# Altium schematic symbol library TAUV-Lib.SchLib: 493 symbols (part 5 of 5)
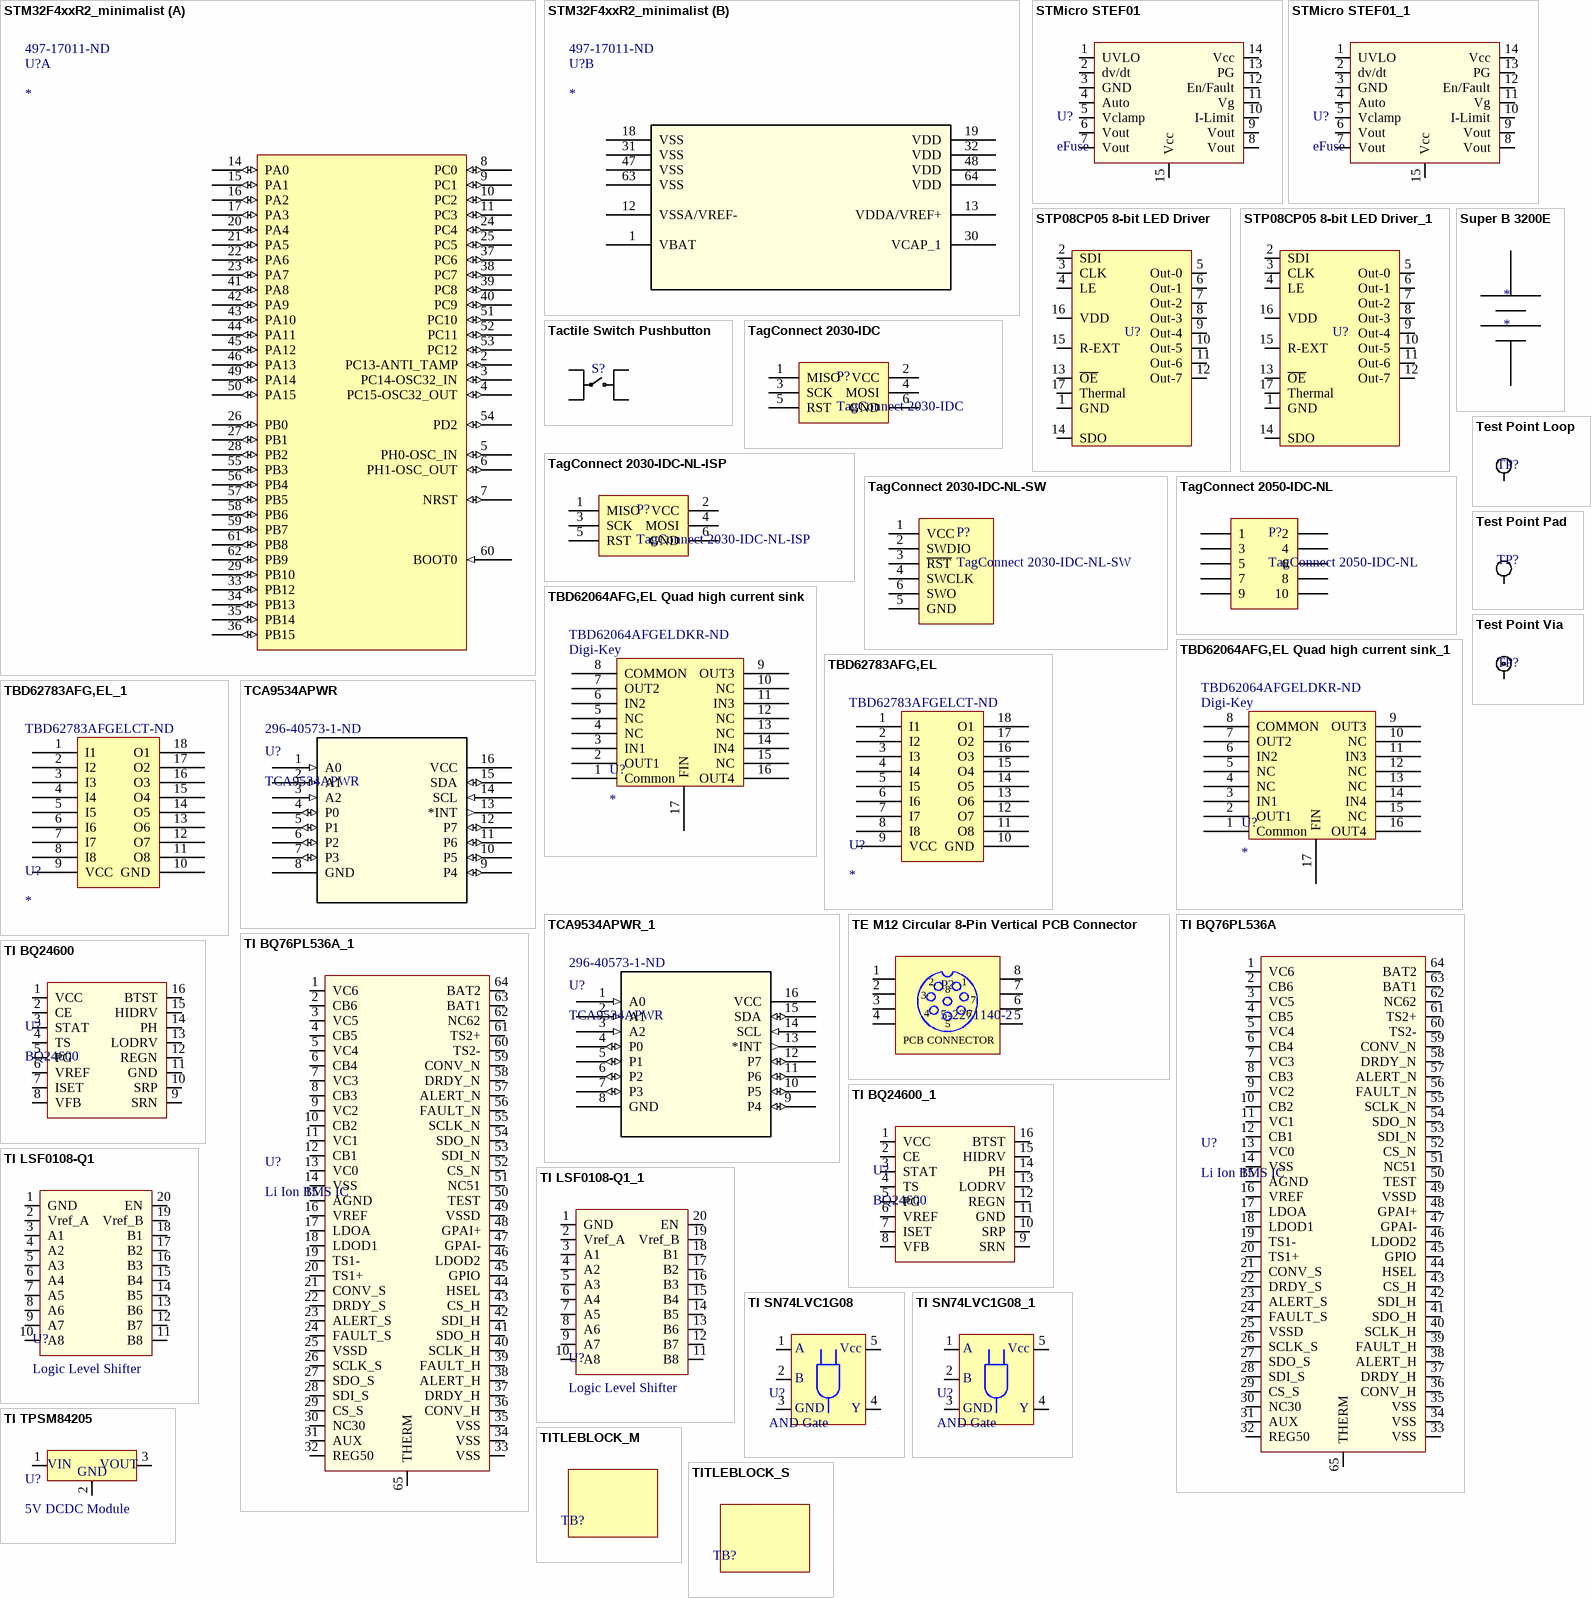
[diagram p18: symbols STM32F4xxR2_minimalist to TITLEBLOCK_S]

## TBD62064AFG,EL Quad high current sink_1
designator U?  Supplier 1: Digi-Key  Supplier Part Number 1: TBD62064AFGELDKR-ND
4channel high current sink type DMOS transistor array; ComponentLink1Description: Digikey; ComponentLink1URL: https://www.digikey.com/product-detail/en/toshiba-semiconductor-and-storage/TBD62064AFGEL/TBD62064AFGELCT-ND/6022000
footprint HSOP16
pins: 1 Common, 2 OUT1, 3 IN1, 4 NC, 5 NC, 6 IN2, 7 OUT2, 8 COMMON, 9 OUT3, 10 NC, 11 IN3, 12 NC, 13 NC, 14 IN4, 15 NC, 16 OUT4, 17 FIN

## TBD62783AFG,EL
designator U?  Supplier Part Number 1: TBD62783AFGELCT-ND
IC LOAD SWITCH 8CH 0.5A 18SOP; Supplier 1: Digi-Key
footprint SOP127P1030X245-18N (SOP, 18-Leads, Body 12.50x7.00mm, Pitch 1.27mm, IPC Medium Density)
pins: 1 I1, 2 I2, 3 I3, 4 I4, 5 I5, 6 I6, 7 I7, 8 I8, 9 VCC, 10 GND, 11 O8, 12 O7, 13 O6, 14 O5, 15 O4, 16 O3, 17 O2, 18 O1

## TBD62783AFG,EL_1
designator U?  Supplier Part Number 1: TBD62783AFGELCT-ND
IC LOAD SWITCH 8CH 0.5A 18SOP; Supplier 1: Digi-Key
footprint SOP127P1030X245-18N (SOP, 18-Leads, Body 12.50x7.00mm, Pitch 1.27mm, IPC Medium Density)
pins: 1 I1, 2 I2, 3 I3, 4 I4, 5 I5, 6 I6, 7 I7, 8 I8, 9 VCC, 10 GND, 11 O8, 12 O7, 13 O6, 14 O5, 15 O4, 16 O3, 17 O2, 18 O1

## TCA9534APWR
designator U?  Supplier Part Number 1: 296-40573-1-ND
IC I/O EXPANDER I2C 8B 16TSSOP; Vendor: Texas Instruments; Built_By: EMA_UL_Team; C: Copyright (C) 2016 Accelerated Designs. All rights reserved; Manufacturer_Part_Number: TCA9534APWR; RefDes: RefDes; Type: DEV; Value: Value; Supplier 1: Digi-Key
footprint PW16
pins: 1 A0 (in), 2 A1 (in), 3 A2 (in), 4 P0 (io), 5 P1 (io), 6 P2 (io), 7 P3 (io), 8 GND (power), 9 P4 (io), 10 P5 (io), 11 P6 (io), 12 P7 (io), 13 *INT (out), 14 SCL (in), 15 SDA (io), 16 VCC (power)

## TCA9534APWR_1
designator U?, comment TCA9534APWR  Supplier Part Number 1: 296-40573-1-ND
IC I/O EXPANDER I2C 8B 16TSSOP; Vendor: Texas Instruments; Built_By: EMA_UL_Team; C: Copyright (C) 2016 Accelerated Designs. All rights reserved; Manufacturer_Part_Number: TCA9534APWR; RefDes: RefDes; Type: DEV; Value: Value; Supplier 1: Digi-Key
footprint PW16
pins: 1 A0 (in), 2 A1 (in), 3 A2 (in), 4 P0 (io), 5 P1 (io), 6 P2 (io), 7 P3 (io), 8 GND (power), 9 P4 (io), 10 P5 (io), 11 P6 (io), 12 P7 (io), 13 *INT (out), 14 SCL (in), 15 SDA (io), 16 VCC (power)

## TE M12 Circular 8-Pin Vertical PCB Connector
designator P?, comment 5-2271140-2
M12 Male Panel Mount, A Code, 8 Position, PCB Type; Manufacturer: TE Connectivity; Datasheet: http://www.te.com/commerce/DocumentDelivery/DDEController?Action=showdoc&DocId=Customer+Drawing%7F2271140%7FA2%7Fpdf%7FEnglish%7FENG_CD_2271140_A2.pdf%7F5-2271140-2; Manufacturer Part Number: 5-2271140-2; Supplier 1: Mouser; Supplier Part Number 1: 571-5-2271140-2
footprint TE 5-2271140-2 8POS (TE 8-Position rear panel mount circular connector)
pins: 1, 2, 3, 4, 5, 6, 7, 8
text: PCB CONNECTOR

## Test Point Loop
designator TP?  (value not drawn)
Keyston Electronics 5001 Test Point Loop; Manufacturer P/N: 5001; Manufacturer: Keystone Electronics; Color: Black; Supplier 1: Digi-Key; Supplier Part Number 1: 36-5001-ND
footprint Test Point Loop - Black (, black)
footprint Test Point Loop - Red (, red)
pins: 1

## Test Point Pad
designator TP?  (value not drawn)
Test point, Pad, 28 mil
footprint Test Point Pad (Test Point, Pad, 28mil)
pins: 1

## Test Point Via
designator TP?  (value not drawn)
Test point, via
footprint Test Point
pins: 1

## TI BQ76PL536A
designator U?, comment Li Ion BMS IC
Battery Multi-Function Controller IC Lithium-Ion 64-HTQFP (10x10); ComponentLink1Description: digikey; ComponentLink1URL: https://www.digikey.com/product-detail/en/texas-instruments/BQ76PL536TPAPRQ1/296-28567-1-ND/2650637
footprint TSQFP50P1200X1200X120_HS-65N (TSQFP, 64-Leads, Body 10.00x10.00mm, Pitch 0.50mm, Thermal Pad 6.50x6.50mm, IPC Medium Density)
pins: 1 VC6, 2 CB6, 3 VC5, 4 CB5, 5 VC4, 6 CB4, 7 VC3, 8 CB3, 9 VC2, 10 CB2, 11 VC1, 12 CB1, 13 VC0, 14 VSS, 15 AGND, 16 VREF, 17 LDOA, 18 LDOD1, 19 TS1-, 20 TS1+, 21 CONV_S, 22 DRDY_S, 23 ALERT_S, 24 FAULT_S, 25 VSSD, 26 SCLK_S, 27 SDO_S, 28 SDI_S, 29 CS_S, 30 NC30, 31 AUX, 32 REG50, 33 VSS, 34 VSS, 35 VSS, 36 CONV_H, 37 DRDY_H, 38 ALERT_H, 39 FAULT_H, 40 SCLK_H, 41 SDO_H, 42 SDI_H, 43 CS_H, 44 HSEL, 45 GPIO, 46 LDOD2, 47 GPAI-, 48 GPAI+, 49 VSSD, 50 TEST, 51 NC51, 52 CS_N, 53 SDI_N, 54 SDO_N, 55 SCLK_N, 56 FAULT_N, 57 ALERT_N, 58 DRDY_N, 59 CONV_N, 60 TS2-, 61 TS2+, 62 NC62, 63 BAT1, 64 BAT2, 65 THERM

## TI BQ76PL536A_1
designator U?, comment Li Ion BMS IC
Battery Multi-Function Controller IC Lithium-Ion 64-HTQFP (10x10); ComponentLink1Description: digikey; ComponentLink1URL: https://www.digikey.com/product-detail/en/texas-instruments/BQ76PL536TPAPRQ1/296-28567-1-ND/2650637
footprint TSQFP50P1200X1200X120_HS-65N (TSQFP, 64-Leads, Body 10.00x10.00mm, Pitch 0.50mm, Thermal Pad 6.50x6.50mm, IPC Medium Density)
pins: 1 VC6, 2 CB6, 3 VC5, 4 CB5, 5 VC4, 6 CB4, 7 VC3, 8 CB3, 9 VC2, 10 CB2, 11 VC1, 12 CB1, 13 VC0, 14 VSS, 15 AGND, 16 VREF, 17 LDOA, 18 LDOD1, 19 TS1-, 20 TS1+, 21 CONV_S, 22 DRDY_S, 23 ALERT_S, 24 FAULT_S, 25 VSSD, 26 SCLK_S, 27 SDO_S, 28 SDI_S, 29 CS_S, 30 NC30, 31 AUX, 32 REG50, 33 VSS, 34 VSS, 35 VSS, 36 CONV_H, 37 DRDY_H, 38 ALERT_H, 39 FAULT_H, 40 SCLK_H, 41 SDO_H, 42 SDI_H, 43 CS_H, 44 HSEL, 45 GPIO, 46 LDOD2, 47 GPAI-, 48 GPAI+, 49 VSSD, 50 TEST, 51 NC51, 52 CS_N, 53 SDI_N, 54 SDO_N, 55 SCLK_N, 56 FAULT_N, 57 ALERT_N, 58 DRDY_N, 59 CONV_N, 60 TS2-, 61 TS2+, 62 NC62, 63 BAT1, 64 BAT2, 65 THERM

## TI BQ24600
designator U?, comment BQ24600
Li Ion Battery Charger IC
footprint BQ24600
pins: 1 VCC, 2 CE, 3 STAT, 4 TS, 5 PG, 6 VREF, 7 ISET, 8 VFB, 9 SRN, 10 SRP, 11 GND, 12 REGN, 13 LODRV, 14 PH, 15 HIDRV, 16 BTST

## TI BQ24600_1
designator U?, comment BQ24600
Li Ion Battery Charger IC
footprint BQ24600
pins: 1 VCC, 2 CE, 3 STAT, 4 TS, 5 PG, 6 VREF, 7 ISET, 8 VFB, 9 SRN, 10 SRP, 11 GND, 12 REGN, 13 LODRV, 14 PH, 15 HIDRV, 16 BTST

## TI LSF0108-Q1
designator U?, comment Logic Level Shifter
ComponentLink1Description: digikey; ComponentLink1URL: https://www.digikey.com/product-detail/en/texas-instruments/LSF0108QPWRQ1/296-44247-1-ND/6098479
footprint TSOP65P640X120-20N (TSOP, 20-Leads, Body 6.50x4.40mm, Pitch 0.65mm, IPC Medium Density)
pins: 1 GND, 2 Vref_A, 3 A1, 4 A2, 5 A3, 6 A4, 7 A5, 8 A6, 9 A7, 10 A8, 11 B8, 12 B7, 13 B6, 14 B5, 15 B4, 16 B3, 17 B2, 18 B1, 19 Vref_B, 20 EN

## TI LSF0108-Q1_1
designator U?, comment Logic Level Shifter
ComponentLink1Description: digikey; ComponentLink1URL: https://www.digikey.com/product-detail/en/texas-instruments/LSF0108QPWRQ1/296-44247-1-ND/6098479
footprint TSOP65P640X120-20N (TSOP, 20-Leads, Body 6.50x4.40mm, Pitch 0.65mm, IPC Medium Density)
pins: 1 GND, 2 Vref_A, 3 A1, 4 A2, 5 A3, 6 A4, 7 A5, 8 A6, 9 A7, 10 A8, 11 B8, 12 B7, 13 B6, 14 B5, 15 B4, 16 B3, 17 B2, 18 B1, 19 Vref_B, 20 EN

## TI SN74LVC1G08
designator U?, comment AND Gate
Single Package Dual Input AND Gate; ComponentLink1Description: digikey; ComponentLink1URL: https://www.digikey.com/product-detail/en/texas-instruments/SN74LVC1G08DCKR/296-11602-1-ND/385741
footprint 5-TSSOP (aka SC-70-5 or SOT-353)
pins: 1, 2, 3, 4, 5
text: A; Vcc; B; GND; Y

## TI SN74LVC1G08_1
designator U?, comment AND Gate
Single Package Dual Input AND Gate; ComponentLink1Description: digikey; ComponentLink1URL: https://www.digikey.com/product-detail/en/texas-instruments/SN74LVC1G08DCKR/296-11602-1-ND/385741
footprint 5-TSSOP (aka SC-70-5 or SOT-353)
pins: 1, 2, 3, 4, 5
text: A; Vcc; B; GND; Y

## TI TPSM84205
designator U?, comment 5V DCDC Module
ComponentLink1Description: digikey; ComponentLink1URL: https://www.digikey.com/product-detail/en/texas-instruments/TPSM84205EAB/296-47074-ND/7561620
footprint TPSM84205
pins: 1, 2, 3
text: VIN; VOUT; GND

## TITLEBLOCK_M
designator TB?, comment TITLEBLOCK_MED  (value not drawn)
TITLEBLOCK, MEDIUM
footprint TITLE BLOCK MEDIUM (Medium title block)

## TITLEBLOCK_S
designator TB?, comment TITLEBLOCK_SML  (value not drawn)
TITLEBLOCK, SMALL
footprint TITLE BLOCK SMALL (Small title block)

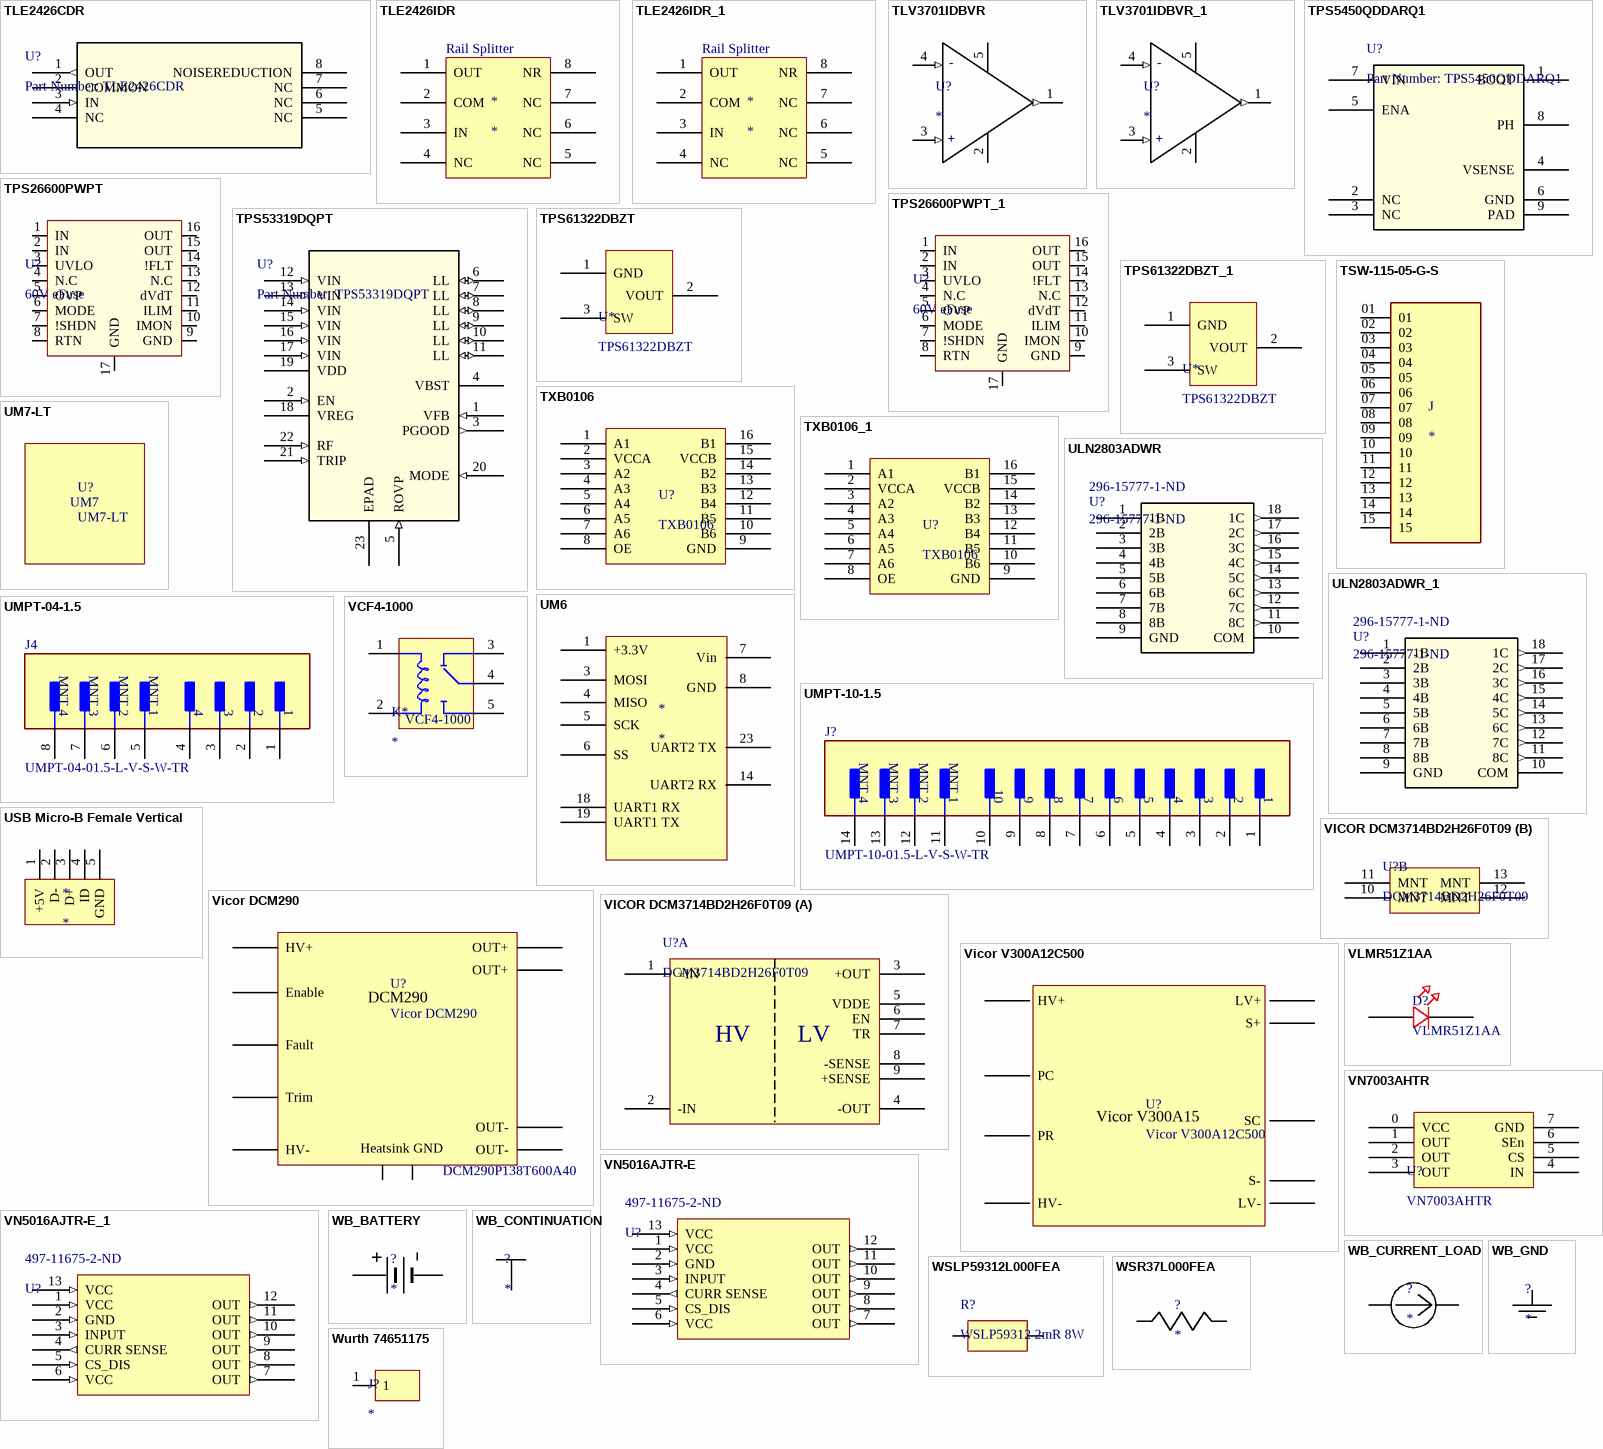
[diagram p13: symbols TLE2426CDR to Wurth 74651175]

## TLE2426CDR
designator U?, comment Part Number: TLE2426CDR
No Description Available; Vendor: Texas Instruments; Built_By: EMA_UL_Team; Manufacturer_Part_Number: TLE2426CDR; Copyright: Copyright (C) 2018 Accelerated Designs. All rights reserved; RefDes: RefDes; Type: DEV; Value: Value
footprint D8
pins: 1 OUT (out), 2 COMMON, 3 IN (in), 4 NC, 5 NC, 6 NC, 7 NC, 8 NOISEREDUCTION

## TLE2426IDR
designator *
Vcc to Vcc/2 Rail Splitter
footprint SOIC-8
pins: 1 OUT, 2 COM, 3 IN, 4 NC, 5 NC, 6 NC, 7 NC, 8 NR
text: Rail Splitter

## TLE2426IDR_1
designator *
Vcc to Vcc/2 Rail Splitter
footprint SOIC-8
pins: 1 OUT, 2 COM, 3 IN, 4 NC, 5 NC, 6 NC, 7 NC, 8 NR
text: Rail Splitter

## TLV3701IDBVR
designator U?
IC COMPARATR NANOPWR P-P SOT23-5; Supplier 1: Digi-Key; Supplier Part Number 1: 296-38577-6-ND
footprint TLV3701IDBVR
pins: 1 Out (out), 2 GND (power), 3 In+ (in), 4 In- (in), 5 Vcc (power)
text: -; +

## TLV3701IDBVR_1
designator U?
IC COMPARATR NANOPWR P-P SOT23-5; Supplier 1: Digi-Key; Supplier Part Number 1: 296-38577-6-ND
footprint TLV3701IDBVR
pins: 1 Out (out), 2 GND (power), 3 In+ (in), 4 In- (in), 5 Vcc (power)
text: -; +

## TPS5450QDDARQ1
designator U?, comment Part Number: TPS5450QDDARQ1
No Description Available; Manufacturer: Texas Instruments; Built_By: EMA_UL_Team; Manufacturer_Part_Number: TPS5450QDDARQ1; Vendor: Texas Instruments; Copyright: Copyright (C) 2018 Accelerated Designs. All rights reserved; RefDes: RefDes; Type: DEV; Value: Value
footprint DDA8_3P1X2P4
pins: 1 BOOT, 2 NC, 3 NC, 4 VSENSE, 5 ENA, 6 GND, 7 VIN, 8 PH, 9 PAD

## TPS26600PWPT
designator U?, comment 60V eFuse
Electronic Fuse Regulator 2.35A 16-HTSSOP; ComponentLink1Description: Digikey; ComponentLink1URL: https://www.digikey.com/product-detail/en/texas-instruments/TPS26600PWPT/296-44810-1-ND/6204668
footprint TSOP65P640X120_HS-17N (TSOP, 16-Leads, Body 5.00x4.40mm, Pitch 0.65mm, Thermal Pad 2.16x2.66mm, IPC Medium Density)
pins: 1 IN, 2 IN, 3 UVLO, 4 N.C, 5 OVP, 6 MODE, 7 !SHDN, 8 RTN, 9 GND, 10 IMON, 11 ILIM, 12 dVdT, 13 N.C, 14 !FLT, 15 OUT, 16 OUT, 17 GND

## TPS26600PWPT_1
designator U?, comment 60V eFuse
Electronic Fuse Regulator 2.35A 16-HTSSOP; ComponentLink1Description: Digikey; ComponentLink1URL: https://www.digikey.com/product-detail/en/texas-instruments/TPS26600PWPT/296-44810-1-ND/6204668
footprint TSOP65P640X120_HS-17N (TSOP, 16-Leads, Body 5.00x4.40mm, Pitch 0.65mm, Thermal Pad 2.16x2.66mm, IPC Medium Density)
pins: 1 IN, 2 IN, 3 UVLO, 4 N.C, 5 OVP, 6 MODE, 7 !SHDN, 8 RTN, 9 GND, 10 IMON, 11 ILIM, 12 dVdT, 13 N.C, 14 !FLT, 15 OUT, 16 OUT, 17 GND

## TPS53319DQPT
designator U?, comment Part Number: TPS53319DQPT
No Description Available; Built_By: EMA_UL_Team; Vendor: Texas Instruments; Manufacturer_Part_Number: TPS53319DQPT; Copyright: Copyright (C) 2018 Accelerated Designs. All rights reserved; RefDes: RefDes; Type: DEV; Value: Value
footprint DQP22_3P24X5P547
pins: 1 VFB (in), 2 EN (in), 3 PGOOD (out), 4 VBST (power), 5 ROVP (in), 6 LL (io), 7 LL (io), 8 LL (io), 9 LL (io), 10 LL (io), 11 LL (io), 12 VIN (in), 13 VIN (in), 14 VIN (in), 15 VIN (in), 16 VIN (in), 17 VIN (in), 18 VREG (power), 19 VDD (power), 20 MODE (in), 21 TRIP (in), 22 RF (in), 23 EPAD

## TPS61322DBZT
designator U*
5V synchronous boost converter / with only 6.5-µA quiescent current
footprint TPS61322DBZT
pins: 1 GND, 2 VOUT, 3 SW

## TPS61322DBZT_1
designator U*, comment TPS61322DBZT
5V synchronous boost converter / with only 6.5-µA quiescent current
footprint TPS61322DBZT
pins: 1 GND, 2 VOUT, 3 SW

## TSW-115-05-G-S
designator J
MP: TSW-115-05-G-S; MF: Samtec; Value: *; Availability: Unavailable; Price: None; Package: None
footprint SAMTEC_TSW-115-05-G-S
pins: 01, 02, 03, 04, 05, 06, 07, 08, 09, 10, 11, 12, 13, 14, 15

## TXB0106
designator U?
6-Bit Bidirectional Voltage-Level Translator with Auto Direction Sensing and +/-15-kV ESD Protect; Part Creator: dgorzigl; Supplier 1: Digi-Key; Datasheet: http://www.ti.com/lit/ds/symlink/txb0106.pdf; Part Number: TXB0106; Supplier Part Number 1: 296-23759-2-ND
footprint SO-G16
pins: 1 A1, 2 VCCA, 3 A2, 4 A3, 5 A4, 6 A5, 7 A6, 8 OE, 9 GND, 10 B6, 11 B5, 12 B4, 13 B3, 14 B2, 15 VCCB, 16 B1

## TXB0106_1
designator U?, comment TXB0106
6-Bit Bidirectional Voltage-Level Translator with Auto Direction Sensing and +/-15-kV ESD Protect; Part Creator: dgorzigl; Supplier 1: Digi-Key; Datasheet: http://www.ti.com/lit/ds/symlink/txb0106.pdf; Part Number: TXB0106; Supplier Part Number 1: 296-23759-2-ND
footprint SO-G16
pins: 1 A1, 2 VCCA, 3 A2, 4 A3, 5 A4, 6 A5, 7 A6, 8 OE, 9 GND, 10 B6, 11 B5, 12 B4, 13 B3, 14 B2, 15 VCCB, 16 B1

## ULN2803ADWR
designator U?, comment 296-15777-1-ND
TRANS 8NPN DARL 50V 0.5A 18SO; Manufacturer_Part_Number: ULN2803ADWR; Vendor: Texas Instruments; Built_By: EMA_UL_Team; C: Copyright (C) 2015 Accelerated Designs. All rights reserved; Manufacturer: Texas Instruments; RefDes: RefDes; Type: DEV; Value: Value; Supplier 1: Digi-Key; Supplier Part Number 1: 296-15777-1-ND
footprint DW18
pins: 1 1B (power), 2 2B (power), 3 3B (power), 4 4B (power), 5 5B (power), 6 6B (power), 7 7B (power), 8 8B (power), 9 GND (power), 10 COM, 11 8C (out), 12 7C (out), 13 6C (out), 14 5C (out), 15 4C (out), 16 3C (out), 17 2C (out), 18 1C (out)

## ULN2803ADWR_1
designator U?, comment 296-15777-1-ND
TRANS 8NPN DARL 50V 0.5A 18SO; Manufacturer_Part_Number: ULN2803ADWR; Vendor: Texas Instruments; Built_By: EMA_UL_Team; C: Copyright (C) 2015 Accelerated Designs. All rights reserved; Manufacturer: Texas Instruments; RefDes: RefDes; Type: DEV; Value: Value; Supplier 1: Digi-Key; Supplier Part Number 1: 296-15777-1-ND
footprint DW18
pins: 1 1B (power), 2 2B (power), 3 3B (power), 4 4B (power), 5 5B (power), 6 6B (power), 7 7B (power), 8 8B (power), 9 GND (power), 10 COM, 11 8C (out), 12 7C (out), 13 6C (out), 14 5C (out), 15 4C (out), 16 3C (out), 17 2C (out), 18 1C (out)

## UM6
designator *
footprint UM6
pins: 1 +3.3V, 3 MOSI, 4 MISO, 5 SCK, 6 SS, 7 Vin, 8 GND, 14 UART2 RX, 18 UART1 RX, 19 UART1 TX, 23 UART2 TX

## UM7-LT
designator U?
UM7-LT Orientation Sensor; Manufacturer: CHRobotics; Part Number: UM7-LT; Datasheet: https://www.chrobotics.com/docs/UM7_Datasheet.pdf; Created By: ayabroud
footprint UM7-LT (UM7-LT Orientation Sensor)
text: UM7

## UMPT-04-1.5
designator J4, comment UMPT-04-01.5-L-V-S-W-TR
CONN MPOWER 2MM MALE 4POS GOLD; ComponentLink1Description: Link; ComponentLink1URL: https://www.digikey.com/en/products/detail/samtec-inc/UMPT-04-01-5-L-V-S-W-TR/14670336?s=N4IgTCBcDaIKoFkAKAVAtABgCyYIwDoBWNAGTQDU0BlNAdTRQCUQBdAXyA
footprint FP-UMPT-04-01_5-L-V-S-W-T-MFG
pins: 1, 2, 3, 4, 5 MNT 1, 6 MNT 2, 7 MNT 3, 8 MNT 4

## UMPT-10-1.5
designator J?, comment UMPT-10-01.5-L-V-S-W-TR
CONN MPOWER 2MM MALE 10POS GOLD; System: Connector; ComponentLink1Description: Link; ComponentLink1URL: https://www.digikey.com/en/products/detail/samtec-inc/UMPT-10-01-5-L-V-S-W-TR/14670365?s=N4IgTCBcDaIKoFkAKAVAtARgAxqxgdAKxoAyaAamgMpoDqaKASiALoC%2BQA
footprint FP-UMPT-10-01_5-L-V-S-W-T-MFG
pins: 1, 2, 3, 4, 5, 6, 7, 8, 9, 10, 11 MNT 1, 12 MNT 2, 13 MNT 3, 14 MNT 4

## USB Micro-B Female Vertical
designator *
Manufacturer: Molex; Manufacturer Part Number: 1051330001
footprint USB MicroB Vertical Female
pins: 1 +5V, 2 D-, 3 D+, 4 ID "Normally just leave N/C", 5 GND

## VCF4-1000
designator K*
SOCKET RELAY PC MNT FOR VF4 SER; Supplier Part Number: PB232-ND; Supplier: DigiKey
footprint VCF4-1000
pins: 1 Coil A, 2 Coil B, 3 Normally Closed, 4 Common, 5 Normally Open

## Vicor DCM290
designator U?  Manufacturer Part Number: DCM290P138T600A40
Vicor DCM290 DC/DC Converter, 13.8V Nominal Output, 600W; Input Voltage: 160V - 420V (for 500W output); Manufacturer: Vicor; Datasheet: http://www.vicorpower.com/documents/datasheets/ds_DCM290y138x600A40.pdf; Supplier 1: Digi-Key; Supplier Part Number 1: 1102-5388-ND; Output Voltage: 13.8V; Max Power: 600W
footprint Vicor DCM290 (DC-DC Converter)
pins: EN Enable, FT Fault, IN+ HV+ (power), IN- HV- (power), M5, M6, OUT+_1 OUT+, OUT+_2 OUT+, OUT-_1 OUT-, OUT-_2 OUT-, TR Trim
text: DCM290; Heatsink GND

## VICOR DCM3714BD2H26F0T09
designator U?, comment DCM3714BD2H26F0T09
Isolated Module DC DC Converter 1 Output 24V 25A 200V - 420V Input; Manufacturer 1: Vicor; Number of Outputs: 1; Isolation Voltage: 2.121kV; Efficiency: 93%; Max Power Dissipation: 600W; Supplier 1: Digi-Key; Supplier Part Number 1: 1102-5548-ND; Manufacturer Part Number 1: DCM3714BD2H26F0T09; Stock 1: 114; Pricing 1: 1=500.03, 10=475.025 (USD); Mount: Through Hole; Min Operating Temperature: -40°C; Max Operating Temperature: 125°C; Packaging: Box; Min Input Voltage: 200V; Max Input Voltage: 420V; Voltage - Output 1: 24V; Max Output Current: 25A; Features: UVLO,OVP; Length: 3.83inch; Height: 0.37inch; Width: 1.4inch; Lead Free: Lead Free
footprint DCM3714BD2H26F0T09
part A pins: 1 +IN, 2 -IN, 3 +OUT, 4 -OUT, 5 VDDE, 6 EN, 7 TR, 8 -SENSE, 9 +SENSE
part B pins: 10 MNT, 11 MNT, 12 MNT, 13 MNT
part A text: HV; LV

## Vicor V300A12C500
designator U?
Manufacturer: Vicor Corporation; Manufacturer Part Number: V300A12C500BL; Number of Outputs: 1; Voltage - Input (Min): 180V; Voltage - Input (Max): 375V; Voltage - Output 1: 12V; Current - Output (Max): 41.67A; Power (Watts): 500W; Voltage - Isolation: 3kV (3000V); Efficiency: 86%; Supplier 1: Digi-Key; RoHS: RoHS non-compliant; Category: Power Supplies - Board Mount; Stock 1: 5; Pricing 1: 1=299.93, 10=290.25 (USD); Packaging: Bulk; Part Status: Active; Type: Isolated Module; Voltage - Output 2: -; Voltage - Output 3: -; Applications: ITE (Commercial); Features: OVP, UVLO; Operating Temperature: -20°C ~ 100°C; Mounting Type: Through Hole; Package / Case: Full Brick; Size / Dimension: 4.60" L x 2.20" W x 0.62" H (116.8mm x 55.9mm x 15.7mm); ComponentLink1URL: http://cdn.vicorpower.com/documents/datasheets/ds_300vin-maxi-family.pdf; ComponentLink1Description: http://cdn.vicorpower.com/documents/datasheets/ds_300vin-maxi-family.pdf; Supplier Part Number 1: 1102-1316-ND
footprint VICOR V300A12C500
pins: HV+ (power), HV- (power), LV+, LV-, PC, PR, S+, S-, SC
text: Vicor V300A15

## VLMR51Z1AA
designator D?
Manufacturer: Vishay; Part Number: VLMR51Z1AA; Supplier 1: Digi-Key; Supplier Part Number 1: VLMR51Z1AA-GS08TR-ND; Datasheet: http://www.vishay.com/docs/83419/vlmr51.pdf
footprint VLMR51Z1AA (VLMR51Z1AA SMT LED)
pins: 1, 2

## VN5016AJTR-E
designator U?  Supplier Part Number 1: 497-11675-2-ND
IC DVR 1CH HISID AUTO POWERSSO12; Supplier 1: Digi-Key; ComponentLink1Description: DigiKey Link; ComponentLink1URL: https://www.digikey.com/product-detail/en/stmicroelectronics/VN5016AJTR-E/497-11675-1-ND/2746904
footprint SOP80P600X162_HS-13N (SOP, 12-Leads, Body 4.90x3.90mm, Pitch 0.80mm, Thermal Pad 4.20x2.50mm, IPC Medium Density)
pins: 1 VCC (in), 2 GND (in), 3 INPUT (in), 4 CURR SENSE (out), 5 CS_DIS (in), 6 VCC (in), 7 OUT (out), 8 OUT (out), 9 OUT (out), 10 OUT (out), 11 OUT (out), 12 OUT (out), 13 VCC (in)

## VN5016AJTR-E_1
designator U?  Supplier Part Number 1: 497-11675-2-ND
IC DVR 1CH HISID AUTO POWERSSO12; Supplier 1: Digi-Key; ComponentLink1Description: DigiKey Link; ComponentLink1URL: https://www.digikey.com/product-detail/en/stmicroelectronics/VN5016AJTR-E/497-11675-1-ND/2746904
footprint SOP80P600X162_HS-13N (SOP, 12-Leads, Body 4.90x3.90mm, Pitch 0.80mm, Thermal Pad 4.20x2.50mm, IPC Medium Density)
pins: 1 VCC (in), 2 GND (in), 3 INPUT (in), 4 CURR SENSE (out), 5 CS_DIS (in), 6 VCC (in), 7 OUT (out), 8 OUT (out), 9 OUT (out), 10 OUT (out), 11 OUT (out), 12 OUT (out), 13 VCC (in)

## VN7003AHTR
designator U?
IC PWR SWITCH N-CH 1:1 OCTAPACK; Manufacturer: STMicroelectronics; Manufacturer Part #: VN7003AHTR; Supplier: Digikey; Supplier Part #: 497-16716-6-ND
footprint OCTAPAK-7+1
pins: 0 VCC, 1 OUT, 2 OUT, 3 OUT, 4 IN, 5 CS, 6 SEn, 7 GND

## WB_BATTERY
designator ?
No Description Available; Manufacturer_Part_Number: WB_BATTERY; PowerPortType: POWER_GROUND; Value: Value; Manufacturer_Name: WB_BATTERY; Copyright: Copyright (C) 2018 Accelerated Designs. All rights reserved; RefDes: RefDes; TYPE: TYPE
pins: 1 +, 2 -

## WB_CONTINUATION
designator ?
No Description Available; Manufacturer_Part_Number: WB_CONTINUATION; PowerPortType: POWER_GROUND; Value: Value; Manufacturer_Name: WB_CONTINUATION; Copyright: Copyright (C) 2018 Accelerated Designs. All rights reserved; RefDes: RefDes; TYPE: TYPE
pins: 1 Node

## WB_CURRENT_LOAD
designator ?
No Description Available; Manufacturer_Part_Number: WB_CURRENT_LOAD; PowerPortType: POWER_GROUND; Value: Value; Manufacturer_Name: WB_CURRENT_LOAD; Copyright: Copyright (C) 2018 Accelerated Designs. All rights reserved; RefDes: RefDes; TYPE: TYPE
pins: 1 +, 2 -

## WB_GND
designator ?
No Description Available; Manufacturer_Part_Number: WB_GND; PowerPortType: POWER_GROUND; Value: Value; Manufacturer_Name: WB_GND; Copyright: Copyright (C) 2018 Accelerated Designs. All rights reserved; RefDes: RefDes; TYPE: TYPE
pins: 1

## WSLP59312L000FEA
designator R?, comment WSLP59312 2mR 8W
footprint WSLP59312L000FEA (0.002R 8W Shunt)
pins: 1, 2

## WSR37L000FEA
designator ?
No Description Available; Manufacturer_Part_Number: WSR37L000FEA; Resistance: 0.0070; Power: 3.0; Tolerance: 1.0; Vendor: Vishay-Dale; Manufacturer_Name: Vishay-Dale; Copyright: Copyright (C) 2018 Accelerated Designs. All rights reserved; RefDes: RefDes; Type: DEV; Value: Value
footprint 4527
pins: 1, 2

## Wurth 74651175
designator J?
Screw Connector Terminal, M5 bolt threading; Maunfacturer: Wurth; Current Rating: 50A; Bolt Threading: M6; Supplier 1: Digi-Key; Supplier Part Number 1: 732-10906-1-ND; Mounting Type: Through Hole; Contact Finish: Tin; Contact Material: Brass; Number of Pins: 4
footprint 74651175
pins: 1

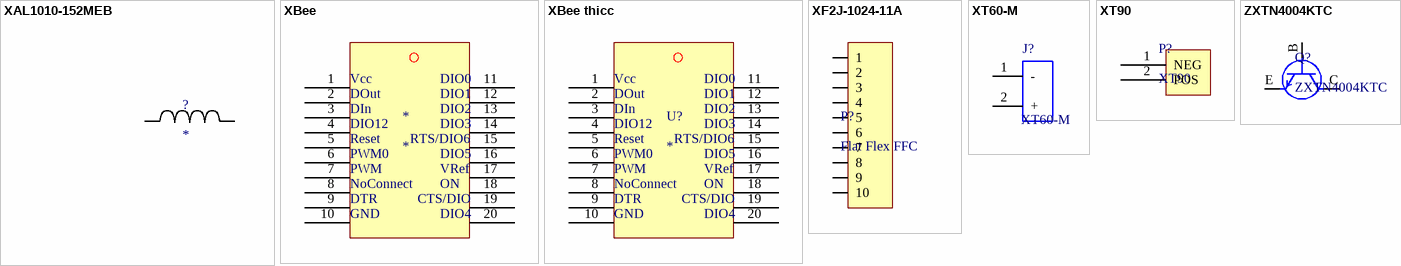
[diagram p14: symbols XAL1010-152MEB to ZXTN4004KTC]

## XAL1010-152MEB
designator ?
No Description Available; Manufacturer_Part_Number: XAL1010-152MEB; Vendor: Coilcraft; Manufacturer_Name: Coilcraft; Copyright: Copyright (C) 2018 Accelerated Designs. All rights reserved; RefDes: RefDes; TYPE: TYPE; Value: Value
footprint XAL1010
pins: 1, 2

## XBee
designator *
XBee
footprint Xbee
pins: 1, 2, 3, 4, 5, 6, 7, 8, 9, 10, 11, 12, 13, 14, 15, 16, 17, 18, 19, 20
text: Vcc; DIO0; DOut; DIO1; DIn; DIO2; DIO12; DIO3; Reset; RTS/DIO6; PWM0; DIO5; PWM; VRef; NoConnect; ON; DTR; CTS/DIO; GND; DIO4

## XBee thicc
designator U?
XBee
footprint Xbee - thiccc
pins: 1, 2, 3, 4, 5, 6, 7, 8, 9, 10, 11, 12, 13, 14, 15, 16, 17, 18, 19, 20
text: Vcc; DIO0; DOut; DIO1; DIn; DIO2; DIO12; DIO3; Reset; RTS/DIO6; PWM0; DIO5; PWM; VRef; NoConnect; ON; DTR; CTS/DIO; GND; DIO4

## XF2J-1024-11A
designator P?, comment Flat Flex FFC
Flat-Flex, 10pos, Vertical; Manu. Part Number: XF2J-1024-11A; Manu: Omron; Max Current: 0.5A; Max Voltage: 50V; Supplier 1: Digi-Key; Supplier Part Number 1: OR735CT-ND
footprint FLAT-FLEX 10POS (10 Position FPC Connector Contacts, Vertical, 1 Sided 0.020" (0.50mm) Surface Mount)
pins: 1, 2, 3, 4, 5, 6, 7, 8, 9, 10

## XT60-M
designator J?
MF: AMASS; Package: Package Analog Devices; Price: None; MP: XT60-M; Availability: Unavailable; SnapEDA_Link: https://www.snapeda.com/parts/XT60-M/AMASS/view-part/?ref=snap; Value: *
footprint *AMASS_XT60-M
pins: 1 -, 2 +

## XT90
designator P?
footprint XT90
pins: 1 NEG, 2 POS

## ZXTN4004KTC
designator Q?
TRANS NPN 150V 1A TO252; Supplier: DigiKey; Part Number: ZXTN4004KTC; Supplier Part Number: ZXTN4004KTCDICT-ND; Data Sheet URL: http://www.diodes.com/_files/datasheets/ZXTN4004K.pdf
footprint ZXTN4004KTC (D-PAK, 3-Pads, Body 6.20x6.65mm (max), IPC Medium Density)
pins: B, C, E